# Altium integrated library CRGCQ1206J100R.IntLib: 1 symbol
Pins are listed as number, name and electrical type; pins without a type are passive.

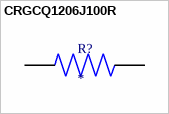
[diagram p0: symbol CRGCQ1206J100R]

## CRGCQ1206J100R
designator R?
Fixed Resistor CRGCQ 1206 100R 5%; MP: CRGCQ1206J100R; Package: None; Price: None; Value: *; Availability: Unavailable
footprint RESC3115X65N
footprint RESC3115X65N
pins: 1, 2